# Altium schematic symbol library MOC3063.Schlib: 1 symbol
Pins are listed as number, name and electrical type; pins without a type are passive.

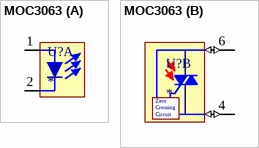
[diagram p0: symbol MOC3063]

## MOC3063
designator U?
Zero-cross triac driver opto triac
footprint DIP6_surface mount
footprint DIP6-300 (DIP 6 Leads; Row Spacing 7.62 mm; Pitch 2.54 mm)
part A pins: 1 A, 2 K
part B pins: 4 (io), 6 (io)
part B text: Zero; Crossing; Circuit